# Altium schematic symbol library MSP430.SchLib: 1 symbol
Pins are listed as number, name and electrical type; pins without a type are passive.

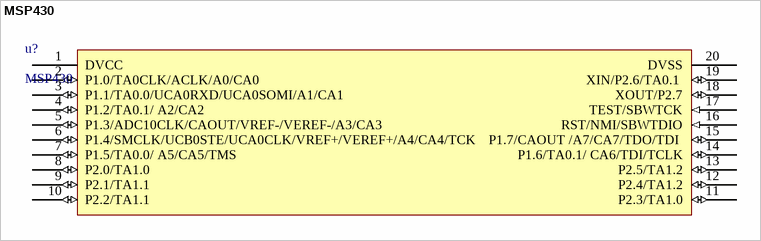
[diagram p0: symbol MSP430]

## MSP430
designator u?
family of ultra-low-power microcontrollers; The device features a powerful 16-bit RISC CPU, 16-bit registers, and constant generators that contribute to maximum code efficiency.; Low Supply-Voltage Range: 1.8 V to 3.6 V; Ultra-Low Power Consumption: Active Mode: 230 µA at 1 MHz, 2.2 V; Standby Mode: 0.5 µA; Off Mode (RAM Retention): 0.1 µA; Universal Serial Communication Interface (USCI): Enhanced UART Supporting Auto Baudrate Detection (LIN); IrDA Encoder and Decoder; Synchronous SPI; I2C™; ComponentLink1Description: Datasheet; ComponentLink1URL: http://www.ti.com/lit/ds/symlink/msp430g2553.pdf
footprint DIP20
pins: 1 DVCC, 2 P1.0/TA0CLK/ACLK/A0/CA0 (io), 3 P1.1/TA0.0/UCA0RXD/UCA0SOMI/A1/CA1 (io), 4 P1.2/TA0.1/ A2/CA2 (io), 5 P1.3/ADC10CLK/CAOUT/VREF-/VEREF-/A3/CA3 (io), 6 P1.4/SMCLK/UCB0STE/UCA0CLK/VREF+/VEREF+/A4/CA4/TCK (io), 7 P1.5/TA0.0/ A5/CA5/TMS (io), 8 P2.0/TA1.0 (io), 9 P2.1/TA1.1 (io), 10 P2.2/TA1.1 (io), 11 P2.3/TA1.0 (io), 12 P2.4/TA1.2 (io), 13 P2.5/TA1.2 (io), 14 P1.6/TA0.1/ CA6/TDI/TCLK (io), 15 P1.7/CAOUT /A7/CA7/TDO/TDI  (io), 16 RST/NMI/SBWTDIO (in), 17 TEST/SBWTCK (in), 18 XOUT/P2.7 (io), 19 XIN/P2.6/TA0.1  (io), 20 DVSS